# Altium schematic symbol library B82462G4682M.SchLib: 1 symbol
Pins are listed as number, name and electrical type; pins without a type are passive.

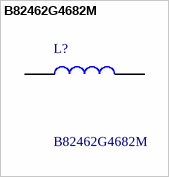
[diagram p0: symbol B82462G4682M]

## B82462G4682M
designator L?
EPCOS - B82462G4682M - INDUCTOR, 6.8UH, 20%, 1.65A, 40MHZ; Manufacturer_Name: TDK; Geometry.Height: 3mm; Manufacturer_Part_Number: B82462G4682M; Mouser Part Number: 871-B82462G4682M; Mouser Price/Stock: https://www.mouser.co.uk/ProductDetail/EPCOS-TDK/B82462G4682M?qs=%2FkiEPUfD%2FqkbYOo7sFcBdg%3D%3D; Arrow Part Number: B82462G4682M; Arrow Price/Stock: https://www.arrow.com/en/products/b82462g4682m/epcos-tdk?region=nac; Datasheet Link: https://www.tdk-electronics.tdk.com/inf/30/db/ind_2008/b82462g4.pdf
footprint INDPM6363X300N
pins: 1, 2